# Altium footprint library IC_ISSI_IS25LP128-JLLE_eec_0.PcbLib: 1 footprints
Each footprint in its own frame and in the unit in brackets; x right, y up, seen from the top. Pads: shape width x height; smd on the part's side, far side on the other; paste and mask are expansions set on the pad; w line width, h text height; cw(c..) or ccw(c..) is an arc to the next point about the centre after c.
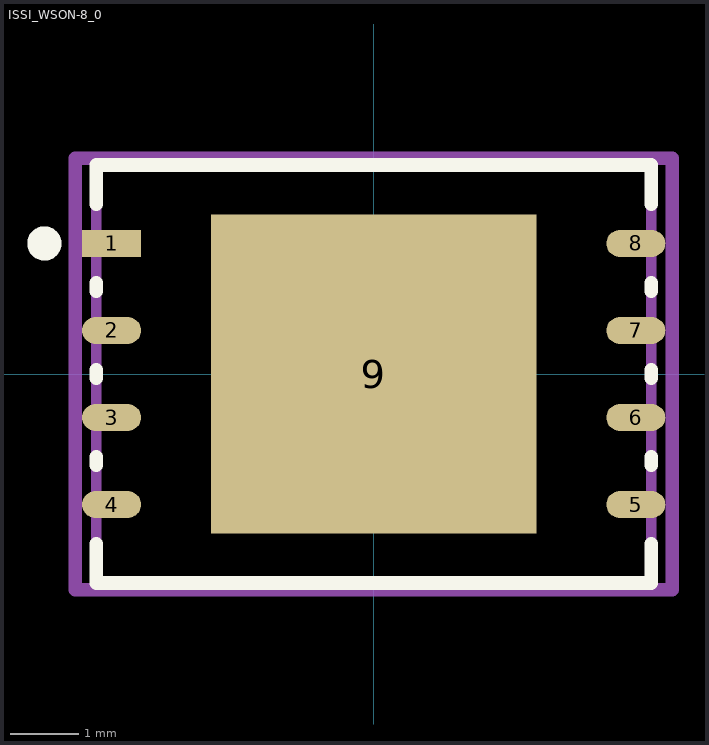
[diagram p0: the footprint, top view; thin cyan lines are the x and y axes]

## ISSI_WSON-8_0 [mm]
pads (9):
  rect 0.861x0.392 smd paste+0 mask+0: 1(-3.826,1.905)
  oval 0.861x0.392 smd paste+0 mask+0: 2(-3.826,0.635) 3(-3.826,-0.635) 4(-3.826,-1.905) 5(3.826,-1.905) 6(3.826,-0.635) 7(3.826,0.635) 8(3.826,1.905)
  rect 4.75x4.65 smd paste-1000 mask+0: 9(0,0)
Top Overlay:
  circle w0.25: c-4.806,1.905 r0.125
  lines w0.2: -4.05,-2.476 -4.05,-3.05 4.05,-3.05 4.05,-2.476 ; -4.05,-1.334 -4.05,-1.206 ; -4.05,-0.064 -4.05,0.064 ; -4.05,1.206 -4.05,1.334 ; -4.05,2.476 -4.05,3.05 4.05,3.05 4.05,2.476 ; 4.05,-1.334 4.05,-1.206 ; 4.05,-0.064 4.05,0.064 ; 4.05,1.206 4.05,1.334
Top Paste:
  rectangle: -1.799,0.288 -0.288,1.749
  rectangle: 0.288,0.288 1.799,1.749
  rectangle: -1.799,-1.749 -0.288,-0.288
  rectangle: 0.288,-1.749 1.799,-0.288
Mechanical 10:
  lines w0.2: -4.356,-3.15 4.356,-3.15 4.356,3.15 -4.356,3.15 -4.356,-3.15
  text ".Designator" at 0,0 h1
Mechanical 12:
  lines w0.15: -4.05,-3.05 4.05,-3.05 4.05,3.05 -4.05,3.05 -4.05,-3.05
Mechanical 15:
  lines w0.1: -0.5,0 0.5,0 ; 0,-0.5 0,0.5
  lines w0.2: -4.356,-3.15 4.356,-3.15 4.356,3.15 -4.356,3.15 -4.356,-3.15
3D body "IC_ISSI_IS25LP128-JLLE_eec.STEP": height 0.25, standoff 0, extent -4.356,-3.15 4.356,3.15